# Altium footprint library PCB_LIB_Assignment1.PcbLib: 17 footprints (part 2 of 2)
Each footprint in its own frame and in the unit in brackets; x right, y up, seen from the top. Pads: shape width x height; smd on the part's side, far side on the other; paste and mask are expansions set on the pad; w line width, h text height; cw(c..) or ccw(c..) is an arc to the next point about the centre after c.
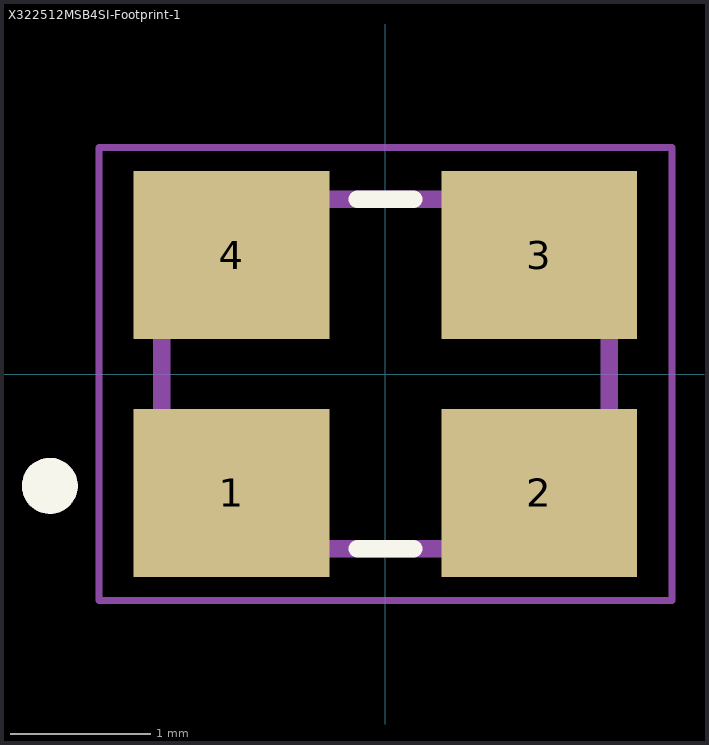
[diagram p1: the footprint, top view; thin cyan lines are the x and y axes]

## X322512MSB4SI-Footprint-1 [mm]
pads (4):
  rect 1.4x1.2 smd: 1(-1.1,-0.85) 2(1.1,-0.85) 3(1.1,0.85) 4(-1.1,0.85)
Top Overlay:
  circle w0.2: c-2.4,-0.8 r0.1
  lines w0.127: -0.2,-1.25 0.2,-1.25 ; -0.2,1.25 0.2,1.25
Mechanical 13:
  circle w0.2: c-2.4,-0.8 r0.1
  lines w0.127: -1.6,-1.25 1.6,-1.25 1.6,1.25 -1.6,1.25 -1.6,-1.25
Mechanical 15:
  lines w0.05: -2.05,-1.62 2.05,-1.62 2.05,1.62 -2.05,1.62 -2.05,-1.62
3D body "TSX-3225 16.0000MF18X-AC3--3DModel-STEP-56544.STEP": height 0.6, standoff 0, extent -1.6,-1.25 1.6,1.25